# EAGLE library part MCP4728 (library U-Microchip-MCP4728-QuadDAC)
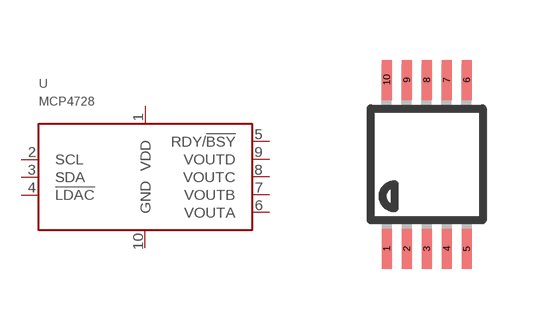
[diagram p0: symbol with the pads of MSOP10; footprint MSOP10]

Designator prefix -

## MCP4728  [MSOP10]
1  VDD
2  SCL
3  SDA
4  !LDAC
5  RDY/!BSY
6  VOUTA
7  VOUTB
8  VOUTC
9  VOUTD
10  GND

## Footprint MSOP10 (pad centres in mm)
10-Lead Mini Small Outline Package [MSOP] (RM-10) Source: http://www.analog.com/UploadedFiles/Data_Sheets/35641221898805SSM2167_b.pdf COMPLIANT TO JEDEC STANDARDS MO-187BA
smd 0.25 x 1: 1 -1,-2.113; 2 -0.5,-2.113; 3 0,-2.113; 4 0.5,-2.113; 5 1,-2.113; 6 1,2.113; 7 0.5,2.113; 8 0,2.113; 9 -0.5,2.113; 10 -1,2.113